# Altium schematic symbol library XS_3P.Schlib: 1 symbol
Pins are listed as number, name and electrical type; pins without a type are passive.

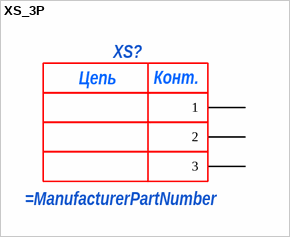
[diagram p0: symbol XS_3P]

## XS_3P
designator XS?
pins: 1, 2, 3
text: Цепь; Конт.